# Altium integrated library Cypress PSoC 1.IntLib: 188 symbols (part 8 of 11)
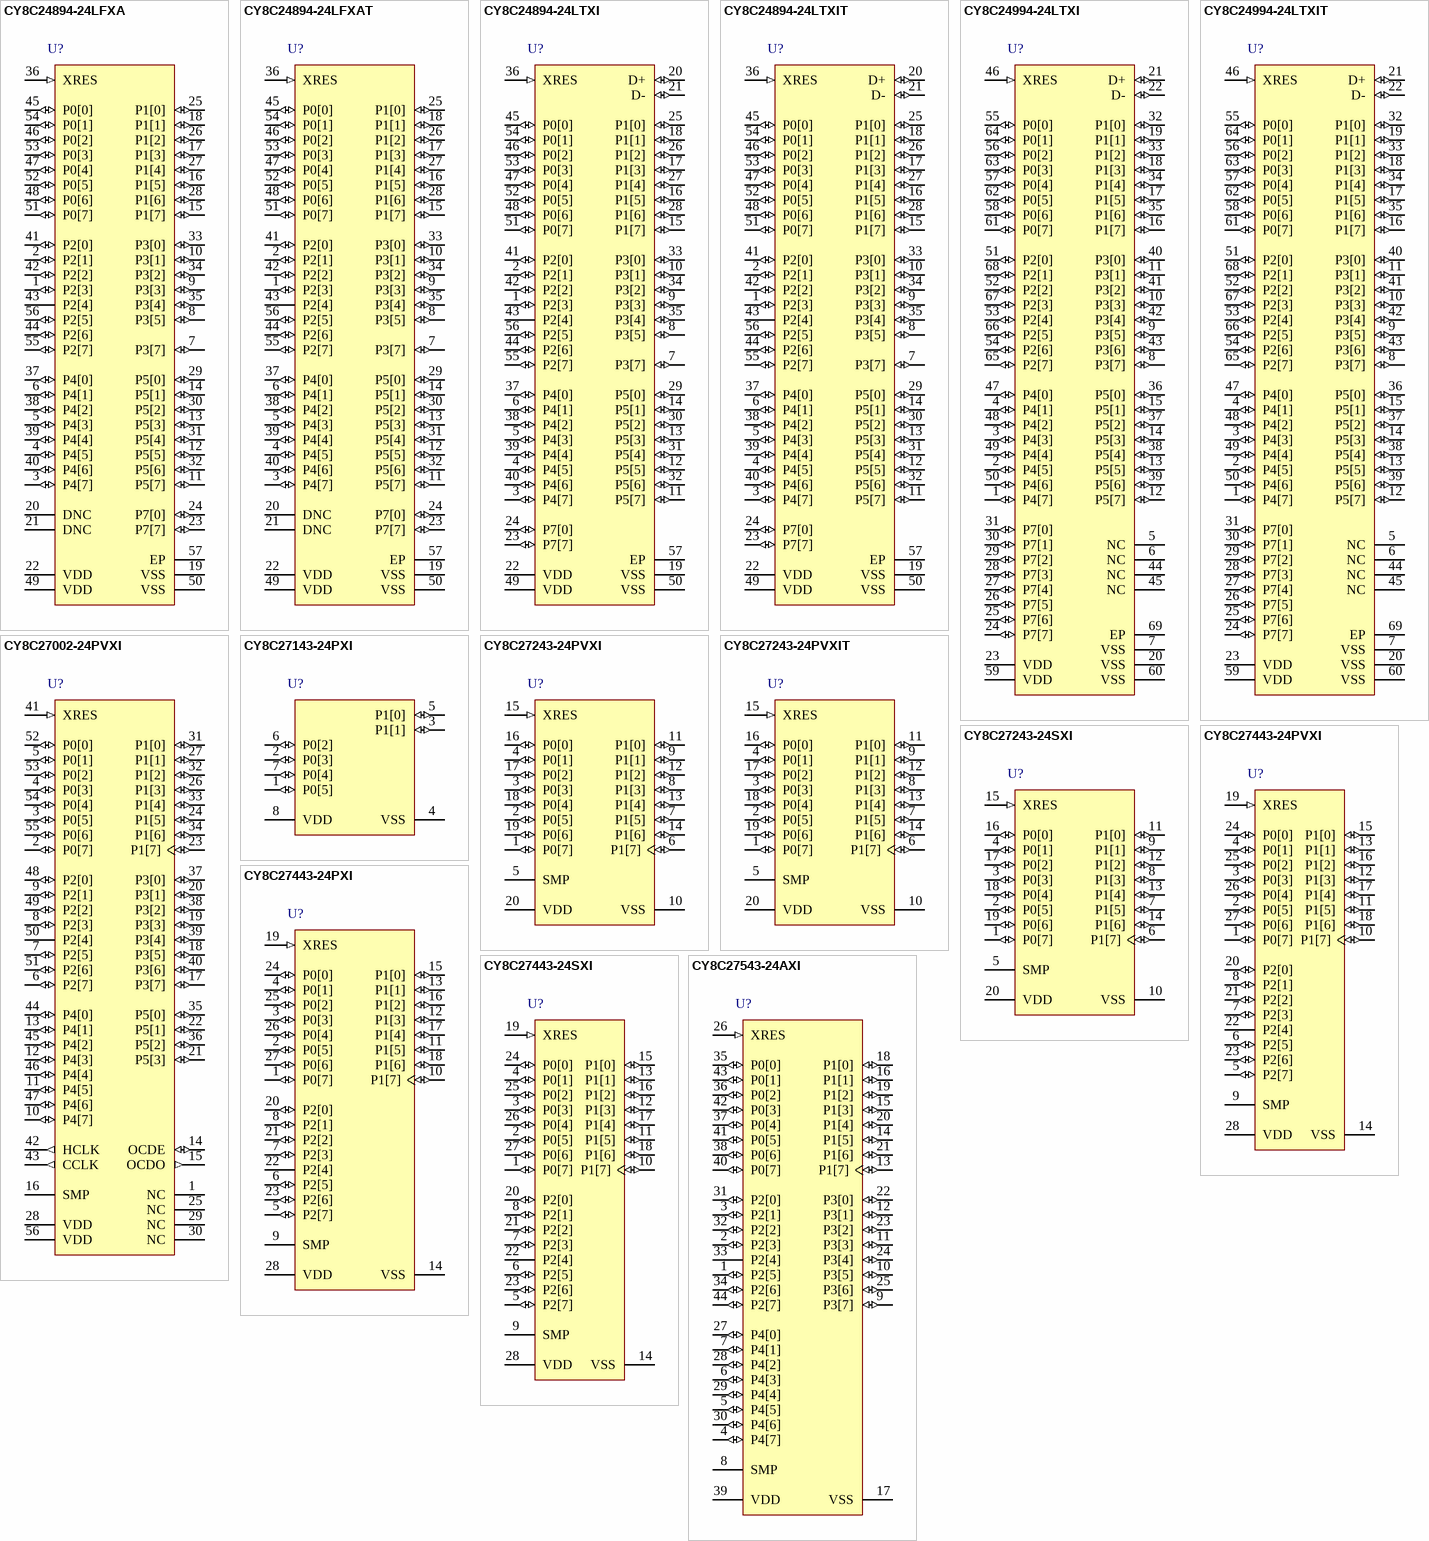
[diagram p18: symbols CY8C24894-24LFXA to CY8C27543-24AXI]

## CY8C27243-24PVXI
designator U?
PSoC Programmable System-on-Chip, 16 KB Flash, 16 GPIOs, 3.00 to 5.25 V, 20-Pin SSOP (O20.21); Manufacturer: Cypress; PartNumber: CY8C27243-24PVXI; Flash (KB): 16; Max. Operating Voltage (V): 5.25; Min. Operating Voltage (V): 3.00; No. of Programmable Digital Blocks: 8; DatasheetVersion: Rev. *Z; PackageVersion: *C; PackageReference: PVX20; PackageDescription: 20-Pin SSOP, Body 7.2 x 5.3 mm, Pitch 0.65 mm; Supplier 1: Digi-Key; Supplier Part Number 1: 428-1594-ND; Supplier 2: Farnell; Supplier Part Number 2: 1267185; Supplier 3: Newark; Supplier Part Number 3: 19M7210; Supplier 4: Mouser; Supplier Part Number 4: 727-CY8C27243-24PVXI; Mounting Technology: Surface Mount; ComponentLink1Description: Manufacturer URL; ComponentLink1URL: http://www.cypress.com/; ComponentLink2Description: Datasheet; ComponentLink2URL: http://www.cypress.com/?docID=45148; ComponentLink3Description: Package Specification; ComponentLink3URL: http://www.cypress.com/?docID=39148; ComponentLink4Description: Product URL; ComponentLink4URL: http://www.cypress.com/?rID=3324
footprint CYP-PVX20_N (SOP, 20-Leads, Body 7.2x5.3mm, Pitch 0.65mm, IPC Medium Density)
footprint CYP-PVX20_L (SOP, 20-Leads, Body 7.2x5.3mm, Pitch 0.65mm, IPC High Density)
footprint CYP-PVX20_M (SOP, 20-Leads, Body 7.2x5.3mm, Pitch 0.65mm, IPC Low Density)
pins: 1 P0[7] (io) "Analog column mux input", 2 P0[5] (io) "Analog column mux input and column output", 3 P0[3] (io) "Analog column mux input and column output", 4 P0[1] (io) "Analog column mux input", 5 SMP (power) "Switch Mode Pump (SMP) connection to external components required", 6 P1[7] (io) "I2C Serial Clock (SCL)", 7 P1[5] (io) "I2C Serial Data (SDA)", 8 P1[3] (io), 9 P1[1] (io) "Crystal input (XTALin), I2C SCL, ISSP-SCLK", 10 VSS (power) "Ground connection.", 11 P1[0] (io) "Crystal output (XTALout), I2C SDA, ISSP-SDATA", 12 P1[2] (io), 13 P1[4] (io) "Optional external clock input (EXTCLK)", 14 P1[6] (io), 15 XRES (in) "Active high external reset with internal pull down", 16 P0[0] (io) "Analog column mux input", 17 P0[2] (io) "Analog column mux input and column output", 18 P0[4] (io) "Analog column mux input and column output", 19 P0[6] (io) "Analog column mux input", 20 VDD (power) "Supply voltage"

## CY8C27243-24PVXIT
designator U?
PSoC Programmable System-on-Chip, 16 KB Flash, 16 GPIOs, 3.00 to 5.25 V, 20-Pin SSOP (O20.21), Tape and Reel; Manufacturer: Cypress; PartNumber: CY8C27243-24PVXIT; Comm. Interface: I2C-SPI-UART; Flash (KB): 16; Max. Operating Voltage (V): 5.25; Min. Operating Voltage (V): 3.00; No. of Programmable Digital Blocks: 8; DatasheetVersion: Rev. *Z; PackageVersion: *C; PackageReference: PVX20; PackageDescription: 20-Pin SSOP, Body 7.2 x 5.3 mm, Pitch 0.65 mm; Supplier 1: Digi-Key; Supplier Part Number 1: CY8C27243-24PVXIT-ND; Supplier 2: Farnell; Supplier Part Number 2: 1876308; Supplier 3: Newark; Supplier Part Number 3: 10R5760; Supplier 4: Mouser; Supplier Part Number 4: 727-CY8C2724324PVXIT; Mounting Technology: Surface Mount; ComponentLink1Description: Manufacturer URL; ComponentLink1URL: http://www.cypress.com/; ComponentLink2Description: Datasheet; ComponentLink2URL: http://www.cypress.com/?docID=45148; ComponentLink3Description: Package Specification; ComponentLink3URL: http://www.cypress.com/?docID=39148; ComponentLink4Description: Product URL; ComponentLink4URL: http://www.cypress.com/?rID=3324
footprint CYP-PVX20_N (SOP, 20-Leads, Body 7.2x5.3mm, Pitch 0.65mm, IPC Medium Density)
footprint CYP-PVX20_L (SOP, 20-Leads, Body 7.2x5.3mm, Pitch 0.65mm, IPC High Density)
footprint CYP-PVX20_M (SOP, 20-Leads, Body 7.2x5.3mm, Pitch 0.65mm, IPC Low Density)
pins: 1 P0[7] (io) "Analog column mux input", 2 P0[5] (io) "Analog column mux input and column output", 3 P0[3] (io) "Analog column mux input and column output", 4 P0[1] (io) "Analog column mux input", 5 SMP (power) "Switch Mode Pump (SMP) connection to external components required", 6 P1[7] (io) "I2C Serial Clock (SCL)", 7 P1[5] (io) "I2C Serial Data (SDA)", 8 P1[3] (io), 9 P1[1] (io) "Crystal input (XTALin), I2C SCL, ISSP-SCLK", 10 VSS (power) "Ground connection.", 11 P1[0] (io) "Crystal output (XTALout), I2C SDA, ISSP-SDATA", 12 P1[2] (io), 13 P1[4] (io) "Optional external clock input (EXTCLK)", 14 P1[6] (io), 15 XRES (in) "Active high external reset with internal pull down", 16 P0[0] (io) "Analog column mux input", 17 P0[2] (io) "Analog column mux input and column output", 18 P0[4] (io) "Analog column mux input and column output", 19 P0[6] (io) "Analog column mux input", 20 VDD (power) "Supply voltage"

## CY8C27243-24SXI
designator U?
PSoC Programmable System-on-Chip, 16 KB Flash, 16 GPIOs, 3.00 to 5.25 V, 20-Pin SOIC (S20.3); Manufacturer: Cypress; PartNumber: CY8C27243-24SXI; Flash (KB): 16; Max. Operating Voltage (V): 5.25; Min. Operating Voltage (V): 3.00; No. of Programmable Digital Blocks: 8; DatasheetVersion: Rev. *Z; PackageReference: S20.3; PackageDescription: 20-Pin SOIC, Body 12.83 x 7.51 mm, Pitch 1.27 mm; Supplier 1: Digi-Key; Supplier Part Number 1: 428-1595-ND; Supplier 2: Newark; Supplier Part Number 2: 19M7212; Supplier 3: Mouser; Supplier Part Number 3: 727-CY8C27243-24SXI; Mounting Technology: Surface Mount; Code_JEDEC: MO-119; ComponentLink1Description: Manufacturer URL; ComponentLink1URL: http://www.cypress.com/; ComponentLink2Description: Datasheet; ComponentLink2URL: http://www.cypress.com/?docID=45148; ComponentLink3Description: Package Specification; ComponentLink3URL: http://www.cypress.com/?docID=35973; ComponentLink4Description: Product URL; ComponentLink4URL: http://www.cypress.com/?rID=3324
footprint CYP-S20.3_N (SOIC, 20-Leads, Body 12.83x7.51mm, Pitch 1.27mm, IPC Medium Density)
footprint CYP-S20.3_L (SOIC, 20-Leads, Body 12.83x7.51mm, Pitch 1.27mm, IPC High Density)
footprint CYP-S20.3_M (SOIC, 20-Leads, Body 12.83x7.51mm, Pitch 1.27mm, IPC Low Density)
pins: 1 P0[7] (io) "Analog column mux input", 2 P0[5] (io) "Analog column mux input and column output", 3 P0[3] (io) "Analog column mux input and column output", 4 P0[1] (io) "Analog column mux input", 5 SMP (power) "Switch Mode Pump (SMP) connection to external components required", 6 P1[7] (io) "I2C Serial Clock (SCL)", 7 P1[5] (io) "I2C Serial Data (SDA)", 8 P1[3] (io), 9 P1[1] (io) "Crystal input (XTALin), I2C SCL, ISSP-SCLK", 10 VSS (power) "Ground connection.", 11 P1[0] (io) "Crystal output (XTALout), I2C SDA, ISSP-SDATA", 12 P1[2] (io), 13 P1[4] (io) "Optional external clock input (EXTCLK)", 14 P1[6] (io), 15 XRES (in) "Active high external reset with internal pull down", 16 P0[0] (io) "Analog column mux input", 17 P0[2] (io) "Analog column mux input and column output", 18 P0[4] (io) "Analog column mux input and column output", 19 P0[6] (io) "Analog column mux input", 20 VDD (power) "Supply voltage"

## CY8C27443-24PVXI
designator U?
PSoC Programmable System-on-Chip, 16 KB Flash, 24 GPIOs, 3.00 to 5.25 V, 28 Pin SSOP (O28.21); Manufacturer: Cypress; PartNumber: CY8C27443-24PVXI; Flash (KB): 16; Max. Operating Voltage (V): 5.25; Min. Operating Voltage (V): 3.00; No. of Programmable Digital Blocks: 8; DatasheetVersion: Rev. *Z; PackageVersion: *C; PackageReference: PVX28; PackageDescription: 28-Pin SSOP, Body 10.2 x 5.3 mm, Pitch 0.65 mm; Supplier 1: Digi-Key; Supplier Part Number 1: 428-1597-ND; Supplier 2: Farnell; Supplier Part Number 2: 1267187; Supplier 3: Newark; Supplier Part Number 3: 19M7216; Supplier 4: Mouser; Supplier Part Number 4: 727-CY8C27443-24PVXI; Mounting Technology: Surface Mount; ComponentLink1Description: Manufacturer URL; ComponentLink1URL: http://www.cypress.com/; ComponentLink2Description: Datasheet; ComponentLink2URL: http://www.cypress.com/?docID=45148; ComponentLink3Description: Package Specification; ComponentLink3URL: http://www.cypress.com/?docID=1371; ComponentLink4Description: Product URL; ComponentLink4URL: http://www.cypress.com/?rID=3324
footprint CYP-PVX28_N (SOP, 28-Leads, Body 10.2x5.3mm, Pitch 0.65mm, IPC Medium Density)
footprint CYP-PVX28_L (SOP, 28-Leads, Body 10.2x5.3mm, Pitch 0.65mm, IPC High Density)
footprint CYP-PVX28_M (SOP, 28-Leads, Body 10.2x5.3mm, Pitch 0.65mm, IPC Low Density)
pins: 1 P0[7] (io) "Analog column mux input", 2 P0[5] (io) "Analog column mux input and column output", 3 P0[3] (io) "Analog column mux input and column output", 4 P0[1] (io) "Analog column mux input", 5 P2[7] (io), 6 P2[5] (io), 7 P2[3] (io) "Direct switched capacitor block input", 8 P2[1] (io) "Direct switched capacitor block input", 9 SMP (power) "Switch mode pump (SMP) connection to external components required", 10 P1[7] (io) "I2C SCL", 11 P1[5] (io) "I2C SDA", 12 P1[3] (io), 13 P1[1] (io) "Crystal input (XTALin), I2C SCL, ISSP-SCLK", 14 VSS (power) "Ground connection.", 15 P1[0] (io) "Crystal output (XTALout), I2C SDA, ISSP-SDATA", 16 P1[2] (io), 17 P1[4] (io) "Optional external clock input (EXTCLK)", 18 P1[6] (io), 19 XRES (in) "Active high external reset with internal pull down", 20 P2[0] (io) "Direct switched capacitor block input", 21 P2[2] (io) "Direct switched capacitor block input", 22 P2[4] (power) "External analog ground (AGND)", 23 P2[6] (io) "External voltage reference (VREF)", 24 P0[0] (io) "Analog column mux input", 25 P0[2] (io) "Analog column mux input and column output", 26 P0[4] (io) "Analog column mux input and column output", 27 P0[6] (io) "Analog column mux input", 28 VDD (power) "Supply voltage"

## CY8C27443-24PXI
designator U?
PSoC Programmable System-on-Chip, 16 KB Flash, 24 GPIOs, 3.00 to 5.25 V, 28-Pin DIP (P28.3); Manufacturer: Cypress; PartNumber: CY8C27443-24PXI; Flash (KB): 16; Max. Operating Voltage (V): 5.25; Min. Operating Voltage (V): 3.00; No. of Programmable Digital Blocks: 8; DatasheetVersion: Rev. *Z; PackageVersion: Rev. *R; PackageReference: P28.3; PackageDescription: 28-Pin Molded DIP, Row Spacing 7.62 mm, Pitch 2.54 mm; Supplier 1: Digi-Key; Supplier Part Number 1: 428-1596-ND; Supplier 2: Farnell; Supplier Part Number 2: 1267189; Supplier 3: Newark; Supplier Part Number 3: 19M7218; Supplier 4: Mouser; Supplier Part Number 4: 727-CY8C27443-24PXI; Mounting Technology: Surface Mount; Code_JEDEC: MO-095; ComponentLink1Description: Manufacturer URL; ComponentLink1URL: http://www.cypress.com/; ComponentLink2Description: Datasheet; ComponentLink2URL: http://www.cypress.com/?docID=45148; ComponentLink3Description: Package Specification; ComponentLink3URL: http://www.cypress.com/?docID=36703; ComponentLink4Description: Product URL; ComponentLink4URL: http://www.cypress.com/?rID=3324
footprint CYP-P28.3 (DIP, 28-Leads, Body 34.67x7.05mm, Pitch 2.54mm)
pins: 1 P0[7] (io) "Analog column mux input", 2 P0[5] (io) "Analog column mux input and column output", 3 P0[3] (io) "Analog column mux input and column output", 4 P0[1] (io) "Analog column mux input", 5 P2[7] (io), 6 P2[5] (io), 7 P2[3] (io) "Direct switched capacitor block input", 8 P2[1] (io) "Direct switched capacitor block input", 9 SMP (power) "Switch mode pump (SMP) connection to external components required", 10 P1[7] (io) "I2C SCL", 11 P1[5] (io) "I2C SDA", 12 P1[3] (io), 13 P1[1] (io) "Crystal input (XTALin), I2C SCL, ISSP-SCLK", 14 VSS (power) "Ground connection.", 15 P1[0] (io) "Crystal output (XTALout), I2C SDA, ISSP-SDATA", 16 P1[2] (io), 17 P1[4] (io) "Optional external clock input (EXTCLK)", 18 P1[6] (io), 19 XRES (in) "Active high external reset with internal pull down", 20 P2[0] (io) "Direct switched capacitor block input", 21 P2[2] (io) "Direct switched capacitor block input", 22 P2[4] (power) "External analog ground (AGND)", 23 P2[6] (io) "External voltage reference (VREF)", 24 P0[0] (io) "Analog column mux input", 25 P0[2] (io) "Analog column mux input and column output", 26 P0[4] (io) "Analog column mux input and column output", 27 P0[6] (io) "Analog column mux input", 28 VDD (power) "Supply voltage"

## CY8C27443-24SXI
designator U?
PSoC Programmable System-on-Chip, 16 KB Flash, 24 GPIOs, 3.00 to 5.25 V, 28-Pin SOIC (S28.3); Manufacturer: Cypress; PartNumber: CY8C27443-24SXI; Flash (KB): 16; Max. Operating Voltage (V): 5.25; Min. Operating Voltage (V): 3.00; No. of Programmable Digital Blocks: 8; DatasheetVersion: Rev. *Z; PackageVersion: *E; PackageReference: SX28; PackageDescription: 28-Pin SOIC, Body 17.91 x 7.51 mm, Pitch 1.27 mm; Supplier 1: Digi-Key; Supplier Part Number 1: 428-1598-ND; Supplier 2: Farnell; Supplier Part Number 2: 1267191; Supplier 3: Newark; Supplier Part Number 3: 19M7219; Supplier 4: Mouser; Supplier Part Number 4: 727-CY8C27443-24SXI; Mounting Technology: Surface Mount; Code_JEDEC: MO-119; ComponentLink1Description: Manufacturer URL; ComponentLink1URL: http://www.cypress.com/; ComponentLink2Description: Datasheet; ComponentLink2URL: http://www.cypress.com/?docID=45148; ComponentLink3Description: Package Specification; ComponentLink3URL: http://www.cypress.com/?docID=39168; ComponentLink4Description: Product URL; ComponentLink4URL: http://www.cypress.com/?rID=3324
footprint CYP-SX28_N (SOIC, 28-Leads, Body 17.9x7.5mm, Pitch 1.27mm, IPC Medium Density)
footprint CYP-SX28_L (SOIC, 28-Leads, Body 17.9x7.5mm, Pitch 1.27mm, IPC High Density)
footprint CYP-SX28_M (SOIC, 28-Leads, Body 17.9x7.5mm, Pitch 1.27mm, IPC Low Density)
pins: 1 P0[7] (io) "Analog column mux input", 2 P0[5] (io) "Analog column mux input and column output", 3 P0[3] (io) "Analog column mux input and column output", 4 P0[1] (io) "Analog column mux input", 5 P2[7] (io), 6 P2[5] (io), 7 P2[3] (io) "Direct switched capacitor block input", 8 P2[1] (io) "Direct switched capacitor block input", 9 SMP (power) "Switch mode pump (SMP) connection to external components required", 10 P1[7] (io) "I2C SCL", 11 P1[5] (io) "I2C SDA", 12 P1[3] (io), 13 P1[1] (io) "Crystal input (XTALin), I2C SCL, ISSP-SCLK", 14 VSS (power) "Ground connection.", 15 P1[0] (io) "Crystal output (XTALout), I2C SDA, ISSP-SDATA", 16 P1[2] (io), 17 P1[4] (io) "Optional external clock input (EXTCLK)", 18 P1[6] (io), 19 XRES (in) "Active high external reset with internal pull down", 20 P2[0] (io) "Direct switched capacitor block input", 21 P2[2] (io) "Direct switched capacitor block input", 22 P2[4] (power) "External analog ground (AGND)", 23 P2[6] (io) "External voltage reference (VREF)", 24 P0[0] (io) "Analog column mux input", 25 P0[2] (io) "Analog column mux input and column output", 26 P0[4] (io) "Analog column mux input and column output", 27 P0[6] (io) "Analog column mux input", 28 VDD (power) "Supply voltage"

## CY8C27543-24AXI
designator U?
PSoC Programmable System-on-Chip, 16 KB Flash, 40 GPIOs, 3.00 to 5.25 V, 44-Pin TQFP (A44S); Manufacturer: Cypress; PartNumber: CY8C27543-24AXI; Flash (KB): 16; Max. Operating Voltage (V): 5.25; Min. Operating Voltage (V): 3.00; No. of Programmable Digital Blocks: 8; DatasheetVersion: Rev. *Z; PackageVersion: *D; PackageReference: AX44; PackageDescription: 44-Pin Thin Plastic Quad Flatpack, Body 10 x 10 mm, Pitch 0.8 mm; Supplier 1: Digi-Key; Supplier Part Number 1: 428-1599-ND; Supplier 2: Farnell; Supplier Part Number 2: 1321744MPKG; Supplier 3: Newark; Supplier Part Number 3: 19M7221; Supplier 4: Mouser; Supplier Part Number 4: 727-CY8C27543-24AXI; Mounting Technology: Surface Mount; Code_JEDEC: MS-026; ComponentLink1Description: Manufacturer URL; ComponentLink1URL: http://www.cypress.com/; ComponentLink2Description: Datasheet; ComponentLink2URL: http://www.cypress.com/?docID=45148; ComponentLink3Description: Package Specification; ComponentLink3URL: http://www.cypress.com/?docID=20444; ComponentLink4Description: Product URL; ComponentLink4URL: http://www.cypress.com/?rID=3324
footprint CYP-AX44_N (QFP, 44-Leads, Body 10x10mm, Pitch 0.8mm, IPC Medium Density)
footprint CYP-AX44_L (QFP, 44-Leads, Body 10x10mm, Pitch 0.8mm, IPC High Density)
footprint CYP-AX44_M (QFP, 44-Leads, Body 10x10mm, Pitch 0.8mm, IPC Low Density)
pins: 1 P2[5] (io), 2 P2[3] (io) "Direct switched capacitor block input", 3 P2[1] (io) "Direct switched capacitor block input", 4 P4[7] (io), 5 P4[5] (io), 6 P4[3] (io), 7 P4[1] (io), 8 SMP (power) "SMP connection to external components required", 9 P3[7] (io), 10 P3[5] (io), 11 P3[3] (io), 12 P3[1] (io), 13 P1[7] (io) "I2C SCL", 14 P1[5] (io) "I2C SDA", 15 P1[3] (io), 16 P1[1] (io) "Crystal input (XTALin), I2C SCL, ISSP-SCLK", 17 VSS (power) "Ground connection.", 18 P1[0] (io) "Crystal output (XTALout), I2C SDA, ISSP-SDATA", 19 P1[2] (io), 20 P1[4] (io) "Optional external clock input (EXTCLK)", 21 P1[6] (io), 22 P3[0] (io), 23 P3[2] (io), 24 P3[4] (io), 25 P3[6] (io), 26 XRES (in) "Active high external reset with internal pull down", 27 P4[0] (io), 28 P4[2] (io), 29 P4[4] (io), 30 P4[6] (io), 31 P2[0] (io) "Direct switched capacitor block input", 32 P2[2] (io) "Direct switched capacitor block input", 33 P2[4] (power) "External Analog Ground (AGND)", 34 P2[6] (io) "External Voltage Reference (VRef)", 35 P0[0] (io) "Analog column mux input", 36 P0[2] (io) "Analog column mux input and column output", 37 P0[4] (io) "Analog column mux input and column output", 38 P0[6] (io) "Analog column mux input", 39 VDD (power) "Supply voltage", 40 P0[7] (io) "Analog column mux input", 41 P0[5] (io) "Analog column mux input and column output", 42 P0[3] (io) "Analog column mux input and column output", 43 P0[1] (io) "Analog column mux input", 44 P2[7] (io)

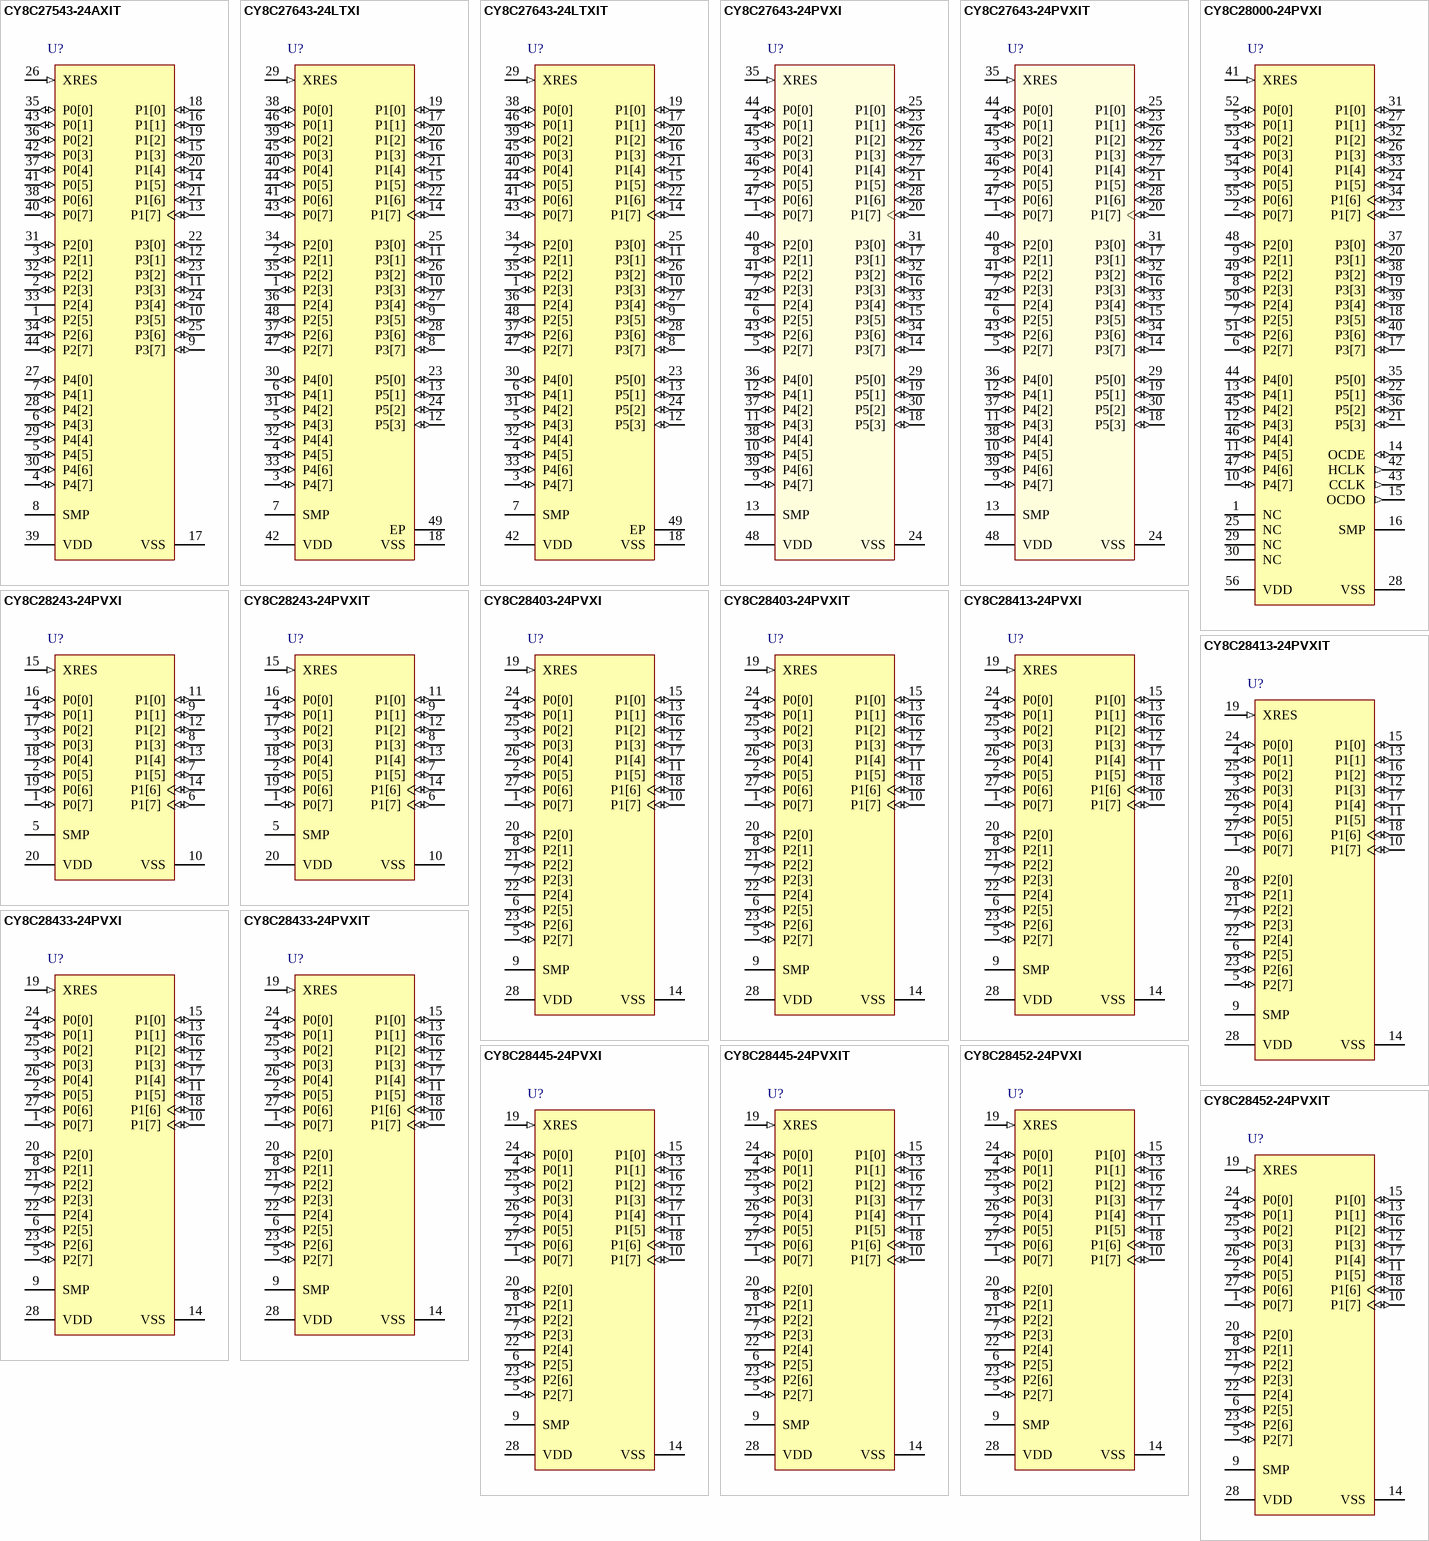
[diagram p8: symbols CY8C27543-24AXIT to CY8C28452-24PVXIT]

## CY8C27543-24AXIT
designator U?
PSoC Programmable System-on-Chip, 16 KB Flash, 40 GPIOs, 3.00 to 5.25 V, 44-Pin TQFP (A44S), Tape and Reel; Manufacturer: Cypress; PartNumber: CY8C27543-24AXIT; Flash (KB): 16; Max. Operating Voltage (V): 5.25; Min. Operating Voltage (V): 3.00; No. of Programmable Digital Blocks: 8; DatasheetVersion: Rev. *Z; PackageVersion: *D; PackageReference: AX44; PackageDescription: 44-Pin Thin Plastic Quad Flatpack, Body 10 x 10 mm, Pitch 0.8 mm; Supplier 1: Digi-Key; Supplier Part Number 1: CY8C27543-24AXIT-ND; Supplier 2: Mouser; Supplier Part Number 2: 727-CY8C2754324AXIT; Mounting Technology: Surface Mount; Code_JEDEC: MS-026; ComponentLink1Description: Manufacturer URL; ComponentLink1URL: http://www.cypress.com/; ComponentLink2Description: Datasheet; ComponentLink2URL: http://www.cypress.com/?docID=45148; ComponentLink3Description: Package Specification; ComponentLink3URL: http://www.cypress.com/?docID=20444; ComponentLink4Description: Product URL; ComponentLink4URL: http://www.cypress.com/?rID=3324
footprint CYP-AX44_N (QFP, 44-Leads, Body 10x10mm, Pitch 0.8mm, IPC Medium Density)
footprint CYP-AX44_L (QFP, 44-Leads, Body 10x10mm, Pitch 0.8mm, IPC High Density)
footprint CYP-AX44_M (QFP, 44-Leads, Body 10x10mm, Pitch 0.8mm, IPC Low Density)
pins: 1 P2[5] (io), 2 P2[3] (io) "Direct switched capacitor block input", 3 P2[1] (io) "Direct switched capacitor block input", 4 P4[7] (io), 5 P4[5] (io), 6 P4[3] (io), 7 P4[1] (io), 8 SMP (power) "SMP connection to external components required", 9 P3[7] (io), 10 P3[5] (io), 11 P3[3] (io), 12 P3[1] (io), 13 P1[7] (io) "I2C SCL", 14 P1[5] (io) "I2C SDA", 15 P1[3] (io), 16 P1[1] (io) "Crystal input (XTALin), I2C SCL, ISSP-SCLK", 17 VSS (power) "Ground connection.", 18 P1[0] (io) "Crystal output (XTALout), I2C SDA, ISSP-SDATA", 19 P1[2] (io), 20 P1[4] (io) "Optional external clock input (EXTCLK)", 21 P1[6] (io), 22 P3[0] (io), 23 P3[2] (io), 24 P3[4] (io), 25 P3[6] (io), 26 XRES (in) "Active high external reset with internal pull down", 27 P4[0] (io), 28 P4[2] (io), 29 P4[4] (io), 30 P4[6] (io), 31 P2[0] (io) "Direct switched capacitor block input", 32 P2[2] (io) "Direct switched capacitor block input", 33 P2[4] (power) "External Analog Ground (AGND)", 34 P2[6] (io) "External Voltage Reference (VRef)", 35 P0[0] (io) "Analog column mux input", 36 P0[2] (io) "Analog column mux input and column output", 37 P0[4] (io) "Analog column mux input and column output", 38 P0[6] (io) "Analog column mux input", 39 VDD (power) "Supply voltage", 40 P0[7] (io) "Analog column mux input", 41 P0[5] (io) "Analog column mux input and column output", 42 P0[3] (io) "Analog column mux input and column output", 43 P0[1] (io) "Analog column mux input", 44 P2[7] (io)

## CY8C27643-24LTXI
designator U?
PSoC Programmable System-on-Chip, 16 KB Flash, 44 GPIOs, 3.00 to 5.25 V, 48-Pin QFN (LT48A); Manufacturer: Cypress; PartNumber: CY8C27643-24LTXI; Flash (KB): 16; Max. Operating Voltage (V): 5.25; Min. Operating Voltage (V): 3.00; No. of Programmable Digital Blocks: 8; DatasheetVersion: Rev. *Z; PackageReference: LTX48; PackageDescription: 48-Pin Sawn QFN, Body 7 x 7 mm, Pitch 0.5 mm; Supplier 1: Digi-Key; Supplier Part Number 1: 428-2981-ND; Supplier 2: Mouser; Supplier Part Number 2: 727-CY8C27643-24LTXI; Mounting Technology: Surface Mount; Code_JEDEC: MO-220; ComponentLink1Description: Manufacturer URL; ComponentLink1URL: http://www.cypress.com/; ComponentLink2Description: Datasheet; ComponentLink2URL: http://www.cypress.com/?docID=45148; ComponentLink3Description: Package Specification; ComponentLink3URL: http://www.cypress.com/?docID=40402; ComponentLink4Description: Product URL; ComponentLink4URL: http://www.cypress.com/?rID=3324
footprint CYP-LTX48_N (QFN, 48-Leads, Body 7x7mm, Pitch 0.5mm, Thermal Pad 5.1x5.1mm, IPC Medium Density)
footprint CYP-LTX48_L (QFN, 48-Leads, Body 7x7mm, Pitch 0.5mm, Thermal Pad 5.1x5.1mm, IPC High Density)
footprint CYP-LTX48_M (QFN, 48-Leads, Body 7x7mm, Pitch 0.5mm, Thermal Pad 5.1x5.1mm, IPC Low Density)
pins: 1 P2[3] (io) "Direct switched capacitor block input", 2 P2[1] (io) "Direct switched capacitor block input", 3 P4[7] (io), 4 P4[5] (io), 5 P4[3] (io), 6 P4[1] (io), 7 SMP (power) "SMP connection to external components required", 8 P3[7] (io), 9 P3[5] (io), 10 P3[3] (io), 11 P3[1] (io), 12 P5[3] (io), 13 P5[1] (io), 14 P1[7] (io) "I2C SCL", 15 P1[5] (io) "I2C SDA", 16 P1[3] (io), 17 P1[1] (io) "Crystal input (XTALin), I2C SCL, ISSP-SCLK", 18 VSS (power) "Ground connection", 19 P1[0] (io) "Crystal output (XTALout), I2C SDA,ISSP-SDATA", 20 P1[2] (io), 21 P1[4] (io) "Optional external clock input (EXTCLK)", 22 P1[6] (io), 23 P5[0] (io), 24 P5[2] (io), 25 P3[0] (io), 26 P3[2] (io), 27 P3[4] (io), 28 P3[6] (io), 29 XRES (in) "Active high external reset with internal pull down", 30 P4[0] (io), 31 P4[2] (io), 32 P4[4] (io), 33 P4[6] (io), 34 P2[0] (io) "Direct switched capacitor block input", 35 P2[2] (io) "Direct switched capacitor block input", 36 P2[4] (power) "External analog ground (AGND)", 37 P2[6] (io) "External voltage reference (VREF)", 38 P0[0] (io) "Analog column mux input", 39 P0[2] (io) "Analog column mux input and column output", 40 P0[4] (io) "Analog column mux input and column output", 41 P0[6] (io) "Analog column mux input", 42 VDD (power) "Supply voltage", 43 P0[7] (io) "Analog column mux input", 44 P0[5] (io) "Analog column mux input and column output", 45 P0[3] (io) "Analog column mux input and column output", 46 P0[1] (io) "Analog column mux input", 47 P2[7] (io), 48 P2[5] (io), 49 EP (power)

## CY8C27643-24LTXIT
designator U?
PSoC Programmable System-on-Chip, 16 KB Flash, 44 GPIOs, 3.00 to 5.25 V, 48-Pin QFN (LT48A), Tape and Reel; Manufacturer: Cypress; PartNumber: CY8C27643-24LTXIT; Flash (KB): 16; Max. Operating Voltage (V): 5.25; Min. Operating Voltage (V): 3.00; No. of Programmable Digital Blocks: 8; DatasheetVersion: Rev. *Z; PackageReference: LTX48; PackageDescription: 48-Pin Sawn QFN, Body 7 x 7 mm, Pitch 0.5 mm; Supplier 1: Digi-Key; Supplier Part Number 1: CY8C27643-24LTXIT-ND; Supplier 2: Mouser; Supplier Part Number 2: 727-CY8C2764324LTXIT; Mounting Technology: Surface Mount; Code_JEDEC: MO-220; ComponentLink1Description: Manufacturer URL; ComponentLink1URL: http://www.cypress.com/; ComponentLink2Description: Datasheet; ComponentLink2URL: http://www.cypress.com/?docID=45148; ComponentLink3Description: Package Specification; ComponentLink3URL: http://www.cypress.com/?docID=40402; ComponentLink4Description: Product URL; ComponentLink4URL: http://www.cypress.com/?rID=3324
footprint CYP-LTX48_N (QFN, 48-Leads, Body 7x7mm, Pitch 0.5mm, Thermal Pad 5.1x5.1mm, IPC Medium Density)
footprint CYP-LTX48_L (QFN, 48-Leads, Body 7x7mm, Pitch 0.5mm, Thermal Pad 5.1x5.1mm, IPC High Density)
footprint CYP-LTX48_M (QFN, 48-Leads, Body 7x7mm, Pitch 0.5mm, Thermal Pad 5.1x5.1mm, IPC Low Density)
pins: 1 P2[3] (io) "Direct switched capacitor block input", 2 P2[1] (io) "Direct switched capacitor block input", 3 P4[7] (io), 4 P4[5] (io), 5 P4[3] (io), 6 P4[1] (io), 7 SMP (power) "SMP connection to external components required", 8 P3[7] (io), 9 P3[5] (io), 10 P3[3] (io), 11 P3[1] (io), 12 P5[3] (io), 13 P5[1] (io), 14 P1[7] (io) "I2C SCL", 15 P1[5] (io) "I2C SDA", 16 P1[3] (io), 17 P1[1] (io) "Crystal input (XTALin), I2C SCL, ISSP-SCLK", 18 VSS (power) "Ground connection", 19 P1[0] (io) "Crystal output (XTALout), I2C SDA,ISSP-SDATA", 20 P1[2] (io), 21 P1[4] (io) "Optional external clock input (EXTCLK)", 22 P1[6] (io), 23 P5[0] (io), 24 P5[2] (io), 25 P3[0] (io), 26 P3[2] (io), 27 P3[4] (io), 28 P3[6] (io), 29 XRES (in) "Active high external reset with internal pull down", 30 P4[0] (io), 31 P4[2] (io), 32 P4[4] (io), 33 P4[6] (io), 34 P2[0] (io) "Direct switched capacitor block input", 35 P2[2] (io) "Direct switched capacitor block input", 36 P2[4] (power) "External analog ground (AGND)", 37 P2[6] (io) "External voltage reference (VREF)", 38 P0[0] (io) "Analog column mux input", 39 P0[2] (io) "Analog column mux input and column output", 40 P0[4] (io) "Analog column mux input and column output", 41 P0[6] (io) "Analog column mux input", 42 VDD (power) "Supply voltage", 43 P0[7] (io) "Analog column mux input", 44 P0[5] (io) "Analog column mux input and column output", 45 P0[3] (io) "Analog column mux input and column output", 46 P0[1] (io) "Analog column mux input", 47 P2[7] (io), 48 P2[5] (io), 49 EP (power)

## CY8C27643-24PVXI
designator U?
PSoC Programmable System-on-Chip, 16 KB Flash, 44 GPIOs, 3.00 to 5.25 V, 48-Pin SSOP (O483); Manufacturer: Cypress; PartNumber: CY8C27643-24PVXI; Flash (KB): 16; Max. Operating Voltage (V): 5.25; Min. Operating Voltage (V): 3.00; No. of Programmable Digital Blocks: 8; DatasheetVersion: Rev. *Z; PackageVersion: *D; PackageReference: PVX48; PackageDescription: 48-Pin Shrunk Small Outline Package, Body 15.88 x 7.51 mm, Pitch 0.64 mm; Supplier 1: Digi-Key; Supplier Part Number 1: 428-1600-ND; Supplier 2: Farnell; Supplier Part Number 2: 1267193; Supplier 3: Newark; Supplier Part Number 3: 19M7227; Supplier 4: Mouser; Supplier Part Number 4: 727-CY8C27643-24PVXI; Mounting Technology: Surface Mount; ComponentLink1Description: Manufacturer URL; ComponentLink1URL: http://www.cypress.com/; ComponentLink2Description: Datasheet; ComponentLink2URL: http://www.cypress.com/?docID=45148; ComponentLink3Description: Package Specification; ComponentLink3URL: http://www.cypress.com/?docID=39235; ComponentLink4Description: Product URL; ComponentLink4URL: http://www.cypress.com/?rID=3324
footprint CYP-PVX48_N (SOP, 48-Leads, Body 15.88x7.51mm, Pitch 0.635mm, IPC Medium Density)
footprint CYP-PVX48_L (SOP, 48-Leads, Body 15.88x7.51mm, Pitch 0.635mm, IPC High Density)
footprint CYP-PVX48_M (SOP, 48-Leads, Body 15.88x7.51mm, Pitch 0.635mm, IPC Low Density)
pins: 1 P0[7] (io) "Analog column mux input", 2 P0[5] (io) "Analog column mux input and column output", 3 P0[3] (io) "Analog column mux input and column output", 4 P0[1] (io) "Analog column mux input", 5 P2[7] (io), 6 P2[5] (io), 7 P2[3] (io) "Direct switched capacitor block input", 8 P2[1] (io) "Direct switched capacitor block input", 9 P4[7] (io), 10 P4[5] (io), 11 P4[3] (io), 12 P4[1] (io), 13 SMP (power) "SMP connection to external components required", 14 P3[7] (io), 15 P3[5] (io), 16 P3[3] (io), 17 P3[1] (io), 18 P5[3] (io), 19 P5[1] (io), 20 P1[7] (io) "I2C SCL", 21 P1[5] (io) "I2C SDA", 22 P1[3] (io), 23 P1[1] (io) "Crystal Input (XTALin), I2C SCL,ISSP-SCLK", 24 VSS (power) "Ground connection", 25 P1[0] (io) "Crystal output (XTALout), I2C SDA,ISSP-SDATA", 26 P1[2] (io), 27 P1[4] (io) "Optional external clock input (EXTCLK)", 28 P1[6] (io), 29 P5[0] (io), 30 P5[2] (io), 31 P3[0] (io), 32 P3[2] (io), 33 P3[4] (io), 34 P3[6] (io), 35 XRES (in) "Active high external reset with internal pull down", 36 P4[0] (io), 37 P4[2] (io), 38 P4[4] (io), 39 P4[6] (io), 40 P2[0] (io) "Direct switched capacitor block input", 41 P2[2] (io) "Direct switched capacitor block input", 42 P2[4] (power) "External analog ground (AGND)", 43 P2[6] (io) "External voltage reference (VRef)", 44 P0[0] (io) "Analog column mux input", 45 P0[2] (io) "Analog column mux input and column output", 46 P0[4] (io) "Analog column mux input and column output", 47 P0[6] (io) "Analog column mux input", 48 VDD (power) "Supply voltage"

## CY8C27643-24PVXIT
designator U?
PSoC Programmable System-on-Chip, 16 KB Flash, 44 GPIOs, 3.00 to 5.25 V, 48-Pin SSOP (O483), Tape and Reel; Manufacturer: Cypress; PartNumber: CY8C27643-24PVXIT; Flash (KB): 16; Max. Operating Voltage (V): 5.25; Min. Operating Voltage (V): 3.00; No. of Programmable Digital Blocks: 8; DatasheetVersion: Rev. *Z; PackageVersion: *D; PackageReference: PVX48; PackageDescription: 48-Pin Shrunk Small Outline Package, Body 15.88 x 7.51 mm, Pitch 0.64 mm; Supplier 1: Digi-Key; Supplier Part Number 1: CY8C27643-24PVXIT-ND; Supplier 2: Newark; Supplier Part Number 2: 19M7228; Supplier 3: Mouser; Supplier Part Number 3: 727-CY8C2764324PVXIT; Mounting Technology: Surface Mount; ComponentLink1Description: Manufacturer URL; ComponentLink1URL: http://www.cypress.com/; ComponentLink2Description: Datasheet; ComponentLink2URL: http://www.cypress.com/?docID=45148; ComponentLink3Description: Package Specification; ComponentLink3URL: http://www.cypress.com/?docID=39235; ComponentLink4Description: Product URL; ComponentLink4URL: http://www.cypress.com/?rID=3324
footprint CYP-PVX48_N (SOP, 48-Leads, Body 15.88x7.51mm, Pitch 0.635mm, IPC Medium Density)
footprint CYP-PVX48_L (SOP, 48-Leads, Body 15.88x7.51mm, Pitch 0.635mm, IPC High Density)
footprint CYP-PVX48_M (SOP, 48-Leads, Body 15.88x7.51mm, Pitch 0.635mm, IPC Low Density)
pins: 1 P0[7] (io) "Analog column mux input", 2 P0[5] (io) "Analog column mux input and column output", 3 P0[3] (io) "Analog column mux input and column output", 4 P0[1] (io) "Analog column mux input", 5 P2[7] (io), 6 P2[5] (io), 7 P2[3] (io) "Direct switched capacitor block input", 8 P2[1] (io) "Direct switched capacitor block input", 9 P4[7] (io), 10 P4[5] (io), 11 P4[3] (io), 12 P4[1] (io), 13 SMP (power) "SMP connection to external components required", 14 P3[7] (io), 15 P3[5] (io), 16 P3[3] (io), 17 P3[1] (io), 18 P5[3] (io), 19 P5[1] (io), 20 P1[7] (io) "I2C SCL", 21 P1[5] (io) "I2C SDA", 22 P1[3] (io), 23 P1[1] (io) "Crystal Input (XTALin), I2C SCL,ISSP-SCLK", 24 VSS (power) "Ground connection", 25 P1[0] (io) "Crystal output (XTALout), I2C SDA,ISSP-SDATA", 26 P1[2] (io), 27 P1[4] (io) "Optional external clock input (EXTCLK)", 28 P1[6] (io), 29 P5[0] (io), 30 P5[2] (io), 31 P3[0] (io), 32 P3[2] (io), 33 P3[4] (io), 34 P3[6] (io), 35 XRES (in) "Active high external reset with internal pull down", 36 P4[0] (io), 37 P4[2] (io), 38 P4[4] (io), 39 P4[6] (io), 40 P2[0] (io) "Direct switched capacitor block input", 41 P2[2] (io) "Direct switched capacitor block input", 42 P2[4] (power) "External analog ground (AGND)", 43 P2[6] (io) "External voltage reference (VRef)", 44 P0[0] (io) "Analog column mux input", 45 P0[2] (io) "Analog column mux input and column output", 46 P0[4] (io) "Analog column mux input and column output", 47 P0[6] (io) "Analog column mux input", 48 VDD (power) "Supply voltage"

## CY8C28000-24PVXI
designator U?
PSoC Programmable System-on-Chip, 16 KB Flash, 44 GPIOs, 3 to 5.25 V, 56-Pin SSOP (PVX56); Manufacturer: Cypress; PartNumber: CY8C28000-24PVXI; Flash (KB): 16; Max. Operating Frequency (MHz): 24; Max. Operating Voltage (V): 5.25; Min. Operating Voltage (V): 3; No. of GPIOs: 44; SRAM (KB): 1; DatasheetVersion: Rev. *M; PackageVersion: Rev. *F, 08/2012; PackageReference: PVX56; PackageDescription: 56-Pin Shrunk Small Outline Package, Body 7.506 x 18.415 mm, Pitch 0.635 mm; Max. Operating Temp. (degreesC): 85; Min. Operating Temp. (degreesC): -40; RoHS: Pb-Free; Mounting Technology: Surface Mount; ComponentLink1Description: Manufacturer URL; ComponentLink1URL: http://www.cypress.com/; ComponentLink2Description: Datasheet; ComponentLink2URL: http://www.cypress.com/?docID=46091; ComponentLink3Description: Package Specification; ComponentLink3URL: http://www.cypress.com/?docID=39259
footprint CYP-PVX56_N (SOP, 56-Leads, Body 18.415x7.506mm, Pitch 0.635mm , IPC Medium Density)
footprint CYP-PVX56_L (SOP, 56-Leads, Body 18.415x7.506mm, Pitch 0.635mm, IPC High Density)
footprint CYP-PVX56_M (SOP, 56-Leads, Body 18.415x7.506mm, Pitch 0.635mm, IPC Low Density)
pins: 1 NC "No connection.", 2 P0[7] (io) "Analog column mux and SAR ADC input.", 3 P0[5] (io) "Analog column mux and SAR ADC input. Analog column output.", 4 P0[3] (io) "Analog column mux and SAR ADC input. Analog column output.", 5 P0[1] (io) "Analog column mux and SAR ADC input.", 6 P2[7] (io), 7 P2[5] (io), 8 P2[3] (io) "Direct switched capacitor block input.", 9 P2[1] (io) "Direct switched capacitor block input.", 10 P4[7] (io), 11 P4[5] (io), 12 P4[3] (io), 13 P4[1] (io), 14 OCDE (io) "OCD even data I/O.", 15 OCDO (out) "OCD odd data output.", 16 SMP (power) "Switch Mode Pump (SMP) connection to  Switch Mode Pump (SMP) connection to required external components.", 17 P3[7] (io), 18 P3[5] (io), 19 P3[3] (io), 20 P3[1] (io), 21 P5[3] (io), 22 P5[1] (io), 23 P1[7] (io) "I2C0 Serial Clock (SCL).", 24 P1[5] (io) "I2C0 Serial Data (SDA).", 25 NC "No connection.", 26 P1[3] (io), 27 P1[1] (io) "Crystal Input (XTALin), I2C0 Serial Clock (SCL), ISSP-SCLK.", 28 VSS (power) "Ground connection.", 29 NC "No connection.", 30 NC "No connection.", 31 P1[0] (io) "Crystal Output (XTALout), I2C0 Serial Data (SDA), ISSP-SDATA.", 32 P1[2] (io) "I2C1 Serial Data (SDA).", 33 P1[4] (io) "Optional External Clock Input (EXTCLK).", 34 P1[6] (io) "I2C1 Serial Clock (SCL).", 35 P5[0] (io), 36 P5[2] (io), 37 P3[0] (io) "I2C1 Serial Data (SDA).", 38 P3[2] (io) "I2C1 Serial Clock (SCL).", 39 P3[4] (io), 40 P3[6] (io), 41 XRES (in) "Active high external reset with internal pull-down.", 42 HCLK (out) "OCD high speed clock output.", 43 CCLK (out) "OCD CPU clock output.", 44 P4[0] (io), 45 P4[2] (io), 46 P4[4] (io), 47 P4[6] (io), 48 P2[0] (io) "Direct switched capacitor block input.", 49 P2[2] (io) "Direct switched capacitor block input.", 50 P2[4] (io) "External Analog Ground (AGND).", 51 P2[6] (io) "External Voltage Reference (VRef).", 52 P0[0] (io) "Analog column mux and SAR ADC input.", 53 P0[2] (io) "Analog column mux and SAR ADC input. Analog column output.", 54 P0[4] (io) "Analog column mux and SAR ADC input. Analog column output.", 55 P0[6] (io) "Analog column mux and SAR ADC input.", 56 VDD (power) "Supply voltage."

## CY8C28243-24PVXI
designator U?
PSoC Programmable System-on-Chip, 16 KB Flash, 16 GPIOs, 3.00 to 5.25 V, 20-Pin SSOP (O20.21); Manufacturer: Cypress; PartNumber: CY8C28243-24PVXI; No. of CapSense IO: 16; Max. Operating Voltage (V): 5.25; Min. Operating Voltage (V): 3.00; No. of Programmable Digital Blocks: 12; DatasheetVersion: Rev. *M; PackageVersion: *C; PackageReference: PVX20; PackageDescription: 20-Pin SSOP, Body 7.2 x 5.3 mm, Pitch 0.65 mm; Supplier 1: Digi-Key; Supplier Part Number 1: CY8C28243-24PVXI-ND; Supplier 2: Newark; Supplier Part Number 2: 63R6709; Supplier 3: Mouser; Supplier Part Number 3: 727-CY8C2824324PVXI; Flash (KB): 16; Mounting Technology: Surface Mount; ComponentLink1Description: Manufacturer URL; ComponentLink1URL: http://www.cypress.com/; ComponentLink2Description: Datasheet; ComponentLink2URL: http://www.cypress.com/?docID=46091; ComponentLink3Description: Package Specification; ComponentLink3URL: http://www.cypress.com/?docID=39148; ComponentLink4Description: Product URL; ComponentLink4URL: http://www.cypress.com/?rID=35242
footprint CYP-PVX20_N (SOP, 20-Leads, Body 7.2x5.3mm, Pitch 0.65mm, IPC Medium Density)
footprint CYP-PVX20_L (SOP, 20-Leads, Body 7.2x5.3mm, Pitch 0.65mm, IPC High Density)
footprint CYP-PVX20_M (SOP, 20-Leads, Body 7.2x5.3mm, Pitch 0.65mm, IPC Low Density)
pins: 1 P0[7] (io) "Analog column mux and SAR ADC input.", 2 P0[5] (io) "Analog column mux and SAR ADC input.Analog column output.", 3 P0[3] (io) "Analog column mux and SAR ADC input.Analog column output.", 4 P0[1] (io) "Analog column mux and SAR ADC input.", 5 SMP (power) "Switch Mode Pump (SMP) connection to external components.", 6 P1[7] (io) "I2C0 Serial Clock (SCL).", 7 P1[5] (io) "I2C0 Serial Data (SDA).", 8 P1[3] (io), 9 P1[1] (io) "Crystal Input (XTALin), I2C0 Serial Clock(SCL),ISSP-SCLK.", 10 VSS (power) "Ground connection.", 11 P1[0] (io) "Crystal Output (XTALout), I2C0 Serial Data(SDA),ISSP-SDATA.", 12 P1[2] (io) "I2C1 Serial Data (SDA).", 13 P1[4] (io) "Optional External Clock Input (EXTCLK).", 14 P1[6] (io) "I2C1 Serial Clock (SCL).", 15 XRES (in) "Active high external reset with internal pull-down.", 16 P0[0] (io) "Analog column mux and SAR ADC input.", 17 P0[2] (io) "Analog column mux and SAR ADC input.Analog column output.", 18 P0[4] (io) "Analog column mux and SAR ADC input.Analog column output.", 19 P0[6] (io) "Analog column mux and SAR ADC intput.", 20 VDD (power) "Supply voltage."

## CY8C28243-24PVXIT
designator U?
PSoC Programmable System-on-Chip, 16 KB Flash, 16 GPIOs, 3.00 to 5.25 V, 20-Pin SSOP (O20.21), Tape and Reel; Manufacturer: Cypress; PartNumber: CY8C28243-24PVXIT; No. of CapSense IO: 16; Max. Operating Voltage (V): 5.25; Min. Operating Voltage (V): 3.00; No. of Programmable Digital Blocks: 12; DatasheetVersion: Rev. *M; PackageVersion: *C; PackageReference: PVX20; PackageDescription: 20-Pin SSOP, Body 7.2 x 5.3 mm, Pitch 0.65 mm; Supplier 1: Digi-Key; Supplier Part Number 1: CY8C28243-24PVXIT-ND; Supplier 2: Newark; Supplier Part Number 2: 74R6202; Supplier 3: Mouser; Supplier Part Number 3: 727-8C2824324PVXIT; Flash (KB): 16; Mounting Technology: Surface Mount; ComponentLink1Description: Manufacturer URL; ComponentLink1URL: http://www.cypress.com/; ComponentLink2Description: Datasheet; ComponentLink2URL: http://www.cypress.com/?docID=46091; ComponentLink3Description: Package Specification; ComponentLink3URL: http://www.cypress.com/?docID=39148; ComponentLink4Description: Product URL; ComponentLink4URL: http://www.cypress.com/?rID=35242
footprint CYP-PVX20_N (SOP, 20-Leads, Body 7.2x5.3mm, Pitch 0.65mm, IPC Medium Density)
footprint CYP-PVX20_L (SOP, 20-Leads, Body 7.2x5.3mm, Pitch 0.65mm, IPC High Density)
footprint CYP-PVX20_M (SOP, 20-Leads, Body 7.2x5.3mm, Pitch 0.65mm, IPC Low Density)
pins: 1 P0[7] (io) "Analog column mux and SAR ADC input.", 2 P0[5] (io) "Analog column mux and SAR ADC input.Analog column output.", 3 P0[3] (io) "Analog column mux and SAR ADC input.Analog column output.", 4 P0[1] (io) "Analog column mux and SAR ADC input.", 5 SMP (power) "Switch Mode Pump (SMP) connection to external components.", 6 P1[7] (io) "I2C0 Serial Clock (SCL).", 7 P1[5] (io) "I2C0 Serial Data (SDA).", 8 P1[3] (io), 9 P1[1] (io) "Crystal Input (XTALin), I2C0 Serial Clock(SCL),ISSP-SCLK.", 10 VSS (power) "Ground connection.", 11 P1[0] (io) "Crystal Output (XTALout), I2C0 Serial Data(SDA),ISSP-SDATA.", 12 P1[2] (io) "I2C1 Serial Data (SDA).", 13 P1[4] (io) "Optional External Clock Input (EXTCLK).", 14 P1[6] (io) "I2C1 Serial Clock (SCL).", 15 XRES (in) "Active high external reset with internal pull-down.", 16 P0[0] (io) "Analog column mux and SAR ADC input.", 17 P0[2] (io) "Analog column mux and SAR ADC input.Analog column output.", 18 P0[4] (io) "Analog column mux and SAR ADC input.Analog column output.", 19 P0[6] (io) "Analog column mux and SAR ADC intput.", 20 VDD (power) "Supply voltage."

## CY8C28403-24PVXI
designator U?
PSoC Programmable System-on-Chip, 16 KB Flash, 24 GPIOs, 3.00 to 5.25 V, 28-Pin SSOP (O28.21); Manufacturer: Cypress; PartNumber: CY8C28403-24PVXI; No. of CapSense IO: 24; Flash (KB): 16; Max. Operating Voltage (V): 5.25; Min. Operating Voltage (V): 3.00; No. of Programmable Digital Blocks: 12; DatasheetVersion: Rev. *M; PackageVersion: *C; PackageReference: PVX28; PackageDescription: 28-Pin SSOP, Body 10.2 x 5.3 mm, Pitch 0.65 mm; Supplier 1: Digi-Key; Supplier Part Number 1: 428-2996-5-ND; Supplier 2: Mouser; Supplier Part Number 2: 727-CY8C2840324PVXI; Mounting Technology: Surface Mount; ComponentLink1Description: Manufacturer URL; ComponentLink1URL: http://www.cypress.com/; ComponentLink2Description: Datasheet; ComponentLink2URL: http://www.cypress.com/?docID=46091; ComponentLink3Description: Package Specification; ComponentLink3URL: http://www.cypress.com/?docID=1371; ComponentLink4Description: Product URL; ComponentLink4URL: http://www.cypress.com/?rID=35242
footprint CYP-PVX28_N (SOP, 28-Leads, Body 10.2x5.3mm, Pitch 0.65mm, IPC Medium Density)
footprint CYP-PVX28_L (SOP, 28-Leads, Body 10.2x5.3mm, Pitch 0.65mm, IPC High Density)
footprint CYP-PVX28_M (SOP, 28-Leads, Body 10.2x5.3mm, Pitch 0.65mm, IPC Low Density)
pins: 1 P0[7] (io) "Analog column mux and SAR ADC input.", 2 P0[5] (io) "Analog column mux and SAR ADC input.Analog column output.", 3 P0[3] (io) "Analog column mux and SAR ADC input.Analog column output.", 4 P0[1] (io) "Analog column mux and SAR ADC input.", 5 P2[7] (io), 6 P2[5] (io), 7 P2[3] (io) "Direct switched capacitor block input.", 8 P2[1] (io) "Direct switched capacitor block input.", 9 SMP (power) "Switch Mode Pump (SMP) connection to external components.", 10 P1[7] (io) "I2C0 Serial Clock (SCL).", 11 P1[5] (io) "I2C0 Serial Data (SDA).", 12 P1[3] (io), 13 P1[1] (io) "Crystal Input (XTALin), I2C0 Serial Clock(SCL),ISSP-SCLK.", 14 VSS (power) "Ground connection.", 15 P1[0] (io) "Crystal Output (XTALout), I2C0 Serial Data(SDA),ISSP-SDATA.", 16 P1[2] (io) "I2C1 Serial Data (SDA).", 17 P1[4] (io) "Optional External Clock Input (EXTCLK).", 18 P1[6] (io) "I2C1 Serial Clock (SCL).", 19 XRES (in) "Active high external reset with internal pull-down.", 20 P2[0] (io) "Direct switched capacitor block input.", 21 P2[2] (io) "Direct switched capacitor block input.", 22 P2[4] (power) "External Analog Ground (AGND).", 23 P2[6] (io) "External Voltage Reference (VRef).", 24 P0[0] (io) "Analog column mux and SAR ADC intput.", 25 P0[2] (io) "Analog column mux and SAR ADC input.Analog column output.", 26 P0[4] (io) "Analog column mux and SAR ADC input.Analog column output.", 27 P0[6] (io) "Analog column mux and SAR ADC intput.", 28 VDD (power) "Supply voltage."

## CY8C28403-24PVXIT
designator U?
PSoC Programmable System-on-Chip, 16 KB Flash, 24 GPIOs, 3.00 to 5.25 V, 28-Pin SSOP (O28.21), Tape and Reel; Manufacturer: Cypress; PartNumber: CY8C28403-24PVXIT; No. of CapSense IO: 24; Flash (KB): 16; Max. Operating Voltage (V): 5.25; Min. Operating Voltage (V): 3.00; No. of Programmable Digital Blocks: 12; DatasheetVersion: Rev. *M; PackageVersion: *C; PackageReference: PVX28; PackageDescription: 28-Pin SSOP, Body 10.2 x 5.3 mm, Pitch 0.65 mm; Supplier 1: Digi-Key; Supplier Part Number 1: CY8C28403-24PVXIT-ND; Supplier 2: Mouser; Supplier Part Number 2: 727-8C2840324PVXIT; Mounting Technology: Surface Mount; ComponentLink1Description: Manufacturer URL; ComponentLink1URL: http://www.cypress.com/; ComponentLink2Description: Datasheet; ComponentLink2URL: http://www.cypress.com/?docID=46091; ComponentLink3Description: Package Specification; ComponentLink3URL: http://www.cypress.com/?docID=1371; ComponentLink4Description: Product URL; ComponentLink4URL: http://www.cypress.com/?rID=35242
footprint CYP-PVX28_N (SOP, 28-Leads, Body 10.2x5.3mm, Pitch 0.65mm, IPC Medium Density)
footprint CYP-PVX28_L (SOP, 28-Leads, Body 10.2x5.3mm, Pitch 0.65mm, IPC High Density)
footprint CYP-PVX28_M (SOP, 28-Leads, Body 10.2x5.3mm, Pitch 0.65mm, IPC Low Density)
pins: 1 P0[7] (io) "Analog column mux and SAR ADC input.", 2 P0[5] (io) "Analog column mux and SAR ADC input.Analog column output.", 3 P0[3] (io) "Analog column mux and SAR ADC input.Analog column output.", 4 P0[1] (io) "Analog column mux and SAR ADC input.", 5 P2[7] (io), 6 P2[5] (io), 7 P2[3] (io) "Direct switched capacitor block input.", 8 P2[1] (io) "Direct switched capacitor block input.", 9 SMP (power) "Switch Mode Pump (SMP) connection to external components.", 10 P1[7] (io) "I2C0 Serial Clock (SCL).", 11 P1[5] (io) "I2C0 Serial Data (SDA).", 12 P1[3] (io), 13 P1[1] (io) "Crystal Input (XTALin), I2C0 Serial Clock(SCL),ISSP-SCLK.", 14 VSS (power) "Ground connection.", 15 P1[0] (io) "Crystal Output (XTALout), I2C0 Serial Data(SDA),ISSP-SDATA.", 16 P1[2] (io) "I2C1 Serial Data (SDA).", 17 P1[4] (io) "Optional External Clock Input (EXTCLK).", 18 P1[6] (io) "I2C1 Serial Clock (SCL).", 19 XRES (in) "Active high external reset with internal pull-down.", 20 P2[0] (io) "Direct switched capacitor block input.", 21 P2[2] (io) "Direct switched capacitor block input.", 22 P2[4] (power) "External Analog Ground (AGND).", 23 P2[6] (io) "External Voltage Reference (VRef).", 24 P0[0] (io) "Analog column mux and SAR ADC intput.", 25 P0[2] (io) "Analog column mux and SAR ADC input.Analog column output.", 26 P0[4] (io) "Analog column mux and SAR ADC input.Analog column output.", 27 P0[6] (io) "Analog column mux and SAR ADC intput.", 28 VDD (power) "Supply voltage."

## CY8C28413-24PVXI
designator U?
PSoC Programmable System-on-Chip, 16 KB Flash, 24 GPIOs, 3.00 to 5.25 V, 28-Pin SSOP (O28.21); Manufacturer: Cypress; PartNumber: CY8C28413-24PVXI; No. of CapSense IO: 24; Flash (KB): 16; Max. Operating Voltage (V): 5.25; Min. Operating Voltage (V): 3.00; No. of Programmable Digital Blocks: 12; DatasheetVersion: Rev. *M; PackageVersion: *C; PackageReference: PVX28; PackageDescription: 28-Pin SSOP, Body 10.2 x 5.3 mm, Pitch 0.65 mm; Supplier 1: Digi-Key; Supplier Part Number 1: 428-2997-5-ND; Supplier 2: Mouser; Supplier Part Number 2: 727-CY8C2841324PVXI; Mounting Technology: Surface Mount; ComponentLink1Description: Manufacturer URL; ComponentLink1URL: http://www.cypress.com/; ComponentLink2Description: Datasheet; ComponentLink2URL: http://www.cypress.com/?docID=46091; ComponentLink3Description: Package Specification; ComponentLink3URL: http://www.cypress.com/?docID=1371; ComponentLink4Description: Product URL; ComponentLink4URL: http://www.cypress.com/?rID=35242
footprint CYP-PVX28_N (SOP, 28-Leads, Body 10.2x5.3mm, Pitch 0.65mm, IPC Medium Density)
footprint CYP-PVX28_L (SOP, 28-Leads, Body 10.2x5.3mm, Pitch 0.65mm, IPC High Density)
footprint CYP-PVX28_M (SOP, 28-Leads, Body 10.2x5.3mm, Pitch 0.65mm, IPC Low Density)
pins: 1 P0[7] (io) "Analog column mux and SAR ADC input.", 2 P0[5] (io) "Analog column mux and SAR ADC input.Analog column output.", 3 P0[3] (io) "Analog column mux and SAR ADC input.Analog column output.", 4 P0[1] (io) "Analog column mux and SAR ADC intput.", 5 P2[7] (io), 6 P2[5] (io), 7 P2[3] (io) "Direct switched capacitor block input.", 8 P2[1] (io) "Direct switched capacitor block input.", 9 SMP (power) "Switch Mode Pump (SMP) connection to external components.", 10 P1[7] (io) "I2C0 Serial Clock (SCL).", 11 P1[5] (io) "I2C0 Serial Data (SDA).", 12 P1[3] (io), 13 P1[1] (io) "Crystal Input (XTALin), I2C0 Serial Clock(SCL),ISSP-SCLK", 14 VSS (power) "Ground connection.", 15 P1[0] (io) "Crystal Output (XTALout), I2C0 Serial Data(SDA),ISSP-SDATA.", 16 P1[2] (io) "I2C1 Serial Data (SDA).", 17 P1[4] (io) "Optional External Clock Input (EXTCLK).", 18 P1[6] (io) "I2C1 Serial Clock (SCL).", 19 XRES (in) "Active high external reset with internal", 20 P2[0] (io) "Direct switched capacitor block input.", 21 P2[2] (io) "Direct switched capacitor block input.", 22 P2[4] (power) "External Analog Ground (AGND).", 23 P2[6] (io) "External Voltage Reference (VRef).", 24 P0[0] (io) "Analog column mux and SAR ADC input.", 25 P0[2] (io) "Analog column mux and SAR ADC input.Analog column output.", 26 P0[4] (io) "Analog column mux and SAR ADC input.Analog column output.", 27 P0[6] (io) "Analog column mux and SAR ADC input.", 28 VDD (power) "Supply voltage."